# EAGLE library part M25P80 (library simpa)
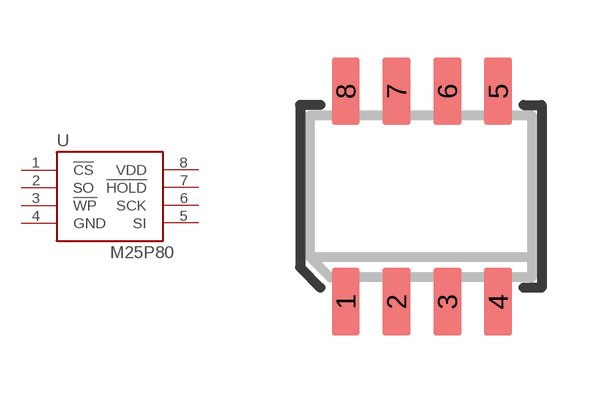
[diagram p7: symbol with the pads of SOT93-1; footprint SOT93-1]

Designator prefix U

## M25P80-VMN3TPB  [SOT93-1]
1  !CS  pas
2  SO  pas
3  !WP  pas
4  GND  pas
5  SI  pas
6  SCK  pas
7  !HOLD  pas
8  VDD  pas

## Footprint SOT93-1 (pad centres in mm)
smd 0.7 x 1.7: 1 -1.905,-2.63; 2 -0.635,-2.635; 3 0.635,-2.635; 4 1.905,-2.635; 5 1.905,2.635; 6 0.635,2.635; 7 -0.635,2.635; 8 -1.905,2.635